# Altium schematic symbol library mega48.SchLib: 9 symbols
Pins are listed as number, name and electrical type; pins without a type are passive.

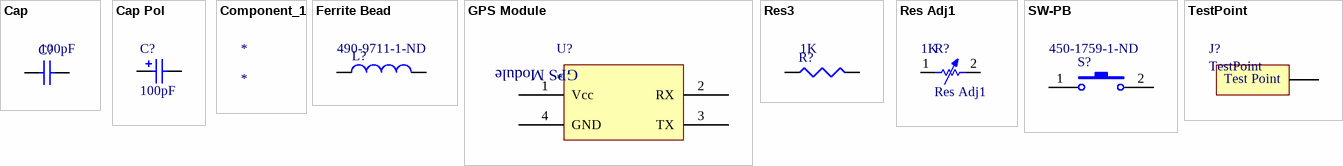
[diagram p0: symbols Cap to TestPoint]

## Cap
designator C?, comment value 100pF  (hidden comment: 0805 style, by default)
Capacitor; Published: 8-Jun-2000; LatestRevisionDate: 17-Jul-2002; LatestRevisionNote: Re-released for DXP Platform.; PackageReference: RAD-0.3; Publisher: Altium Limited; PackageDescription: Radial Cap, Thru-Hole; 2 Leads; 0.3 in Pin Spacing
simulation model CAP (Capacitor)
signal-integrity model Cap
footprint C0805 (Chip Capacitor, Body 2.0x1.3mm, IPC High Density)
pins: 1, 2

## Cap Pol
designator C?, comment 100pF
Polarized Capacitor (Radial); Value: 100pF
pins: 1, 2
1 alternate drawing of the same symbol

## Component_1
designator *

## Ferrite Bead
designator L?  Supplier Part Number 1: 490-9711-1-ND
Murata Ferrite Bead; Manufacturer Part Number: BLM21RK102SN1D; Impedance: 1; Resistance: 500; Tolerance: 25; Current Rating: 200; Supplier 1: Digikey; Manufacturer: Murata; Stock 1: 16880; Pricing 1: 1=0.16, 10=0.135, 50=0.0868, 100=0.0748, 250=0.0598, 500=0.0539, 1000=0.0449 (USD); Mount: Surface Mount; Case/Package: 0805; Case Code (Metric): 2012; Case Code (Imperial): 0805; Min Operating Temperature: -55; Max Operating Temperature: 125; Core Material: Ferrite; Package Quantity: 4000; Packaging: Tape and Reel; Length: 0.079; Height: 0.85; Width: 0.049; Radiation Hardening: No; REACH SVHC: No SVHC; ComponentLink1URL: https://datasheet.ciiva.com/11800/0900766b811b5866-11800834.pdf; ComponentLink1Description: https://datasheet.ciiva.com/11800/0900766b811b5866-11800834.pdf; ComponentLink2URL: https://datasheet.ciiva.com/41449/001171743-da-01-en-chip-drossel0805-1000r-200ma-2-0x1-25mm-41449396.pdf; ComponentLink2Description: https://datasheet.ciiva.com/41449/001171743-da-01-en-chip-drossel0805-1000r-200ma-2-0x1-25mm-41449396.pdf; ComponentLink3URL: https://datasheet.ciiva.com/41449/001172370-da-01-en-drossel-0805-1000r-2-0x1-25mm-4000st-41449540.pdf; ComponentLink3Description: https://datasheet.ciiva.com/41449/001172370-da-01-en-drossel-0805-1000r-2-0x1-25mm-4000st-41449540.pdf; ComponentLink4URL: https://datasheet.ciiva.com/8021/5163-8021605.pdf; ComponentLink4Description: https://datasheet.ciiva.com/8021/5163-8021605.pdf; ComponentLink5URL: https://datasheet.ciiva.com/8021/5163-8021606.pdf; ComponentLink5Description: https://datasheet.ciiva.com/8021/5163-8021606.pdf; ComponentLink6URL: https://datasheet.ciiva.com/6211/l0110e-6211752.pdf; ComponentLink6Description: https://datasheet.ciiva.com/6211/l0110e-6211752.pdf; ComponentLink7URL: https://datasheet.ciiva.com/3082/l0110s0100blm21r-3082750.pdf; ComponentLink7Description: https://datasheet.ciiva.com/3082/l0110s0100blm21r-3082750.pdf; ComponentLink8URL: https://datasheet.ciiva.com/3081/l0110s0100blm21r-3081663.pdf; ComponentLink8Description: https://datasheet.ciiva.com/3081/l0110s0100blm21r-3081663.pdf
footprint L0805 (Chip Capacitor, Body 2.0x1.3mm, IPC High Density)
pins: 1, 2

## GPS Module
designator U?
pins: 1 Vcc, 2 RX, 3 TX, 4 GND

## Res3
designator R?, comment 1K
Resistor; Published: 8-Jun-2000; LatestRevisionDate: 29-May-2009; LatestRevisionNote: IPC-7351 Footprint Added.; PackageReference: J1-0603; Publisher: Altium Limited; PackageDescription: Chip Resistor; Value: 1K
footprint J1-0603 (Chip Resistor, Body 1.6x0.8mm, IPC High Density)
pins: 1, 2

## Res Adj1
designator R?  value 1K
Variable Resistor
footprint LOG POT
pins: 1, 2

## SW-PB
designator S?  Supplier Part Number 1: 450-1759-1-ND
Switch; Manufacturer: TE Connectivity Alcoswitch Switches; Manufacturer Part Number: FSM4JSMATR; Circuit: SPST-NO; Switch Function: Off-Mom; Contact Rating @ Voltage: 0.05A @ 24VDC; Actuator Type: Standard; Actuator Height off PCB, from Pins: 5.00mm; Actuator Orientation: Top Actuated; Outline: 6.00mm x 6.00mm; Illumination: Non-Illuminated; Operating Force: 160gf; Actuator Material: Polyphenylene Sulfide (PPS); Switch Travel: 0.25mm; Mechanical Life: 100,000 Cycles; Published: 24-Mar-1999; LatestRevisionDate: 17-Jul-2002; LatestRevisionNote: Re-released for DXP Platform.; PackageReference: SPST-2; Publisher: Altium Limited; PackageDescription: Switch; 2 Leads; Supplier 1: Digi-Key; RoHS: RoHS Compliant; Category: Switches; Stock 1: 47790; Pricing 1: 1=0.3, 10=0.29, 25=0.28, 50=0.27, 100=0.255, 200=0.24, 500=0.23 (USD); Packaging: Cut Tape (CT); Mounting Type: Surface Mount; Termination Style: Gull Wing; Illumination Voltage (Nominal): -; Illumination Type, Color: -; Ingress Protection: -; Features: -; Operating Temperature: -35°C ~ 85°C; ComponentLink1URL: http://www.te.com/commerce/DocumentDelivery/DDEController?Action=srchrtrv&DocNm=2-1437565-7&DocType=Customer+Drawing&DocLang=English; ComponentLink1Description: http://www.te.com/commerce/DocumentDelivery/DDEController?Action=srchrtrv&DocNm=2-1437565-7&DocType=Customer+Drawing&DocLang=English
footprint SW-PB
pins: 1, 2

## TestPoint
designator J?
footprint TEST POINT
pins: 1
text: Test Point